# Altium schematic symbol library SG_GOST_PowerSupply.SchLib: 2 symbols
Pins are listed as number, name and electrical type; pins without a type are passive.

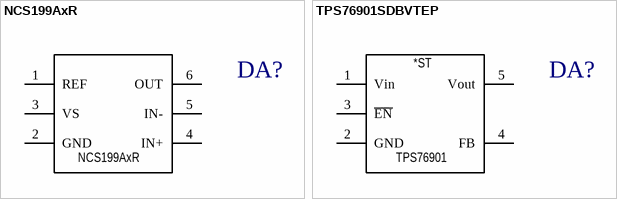
[diagram p0: symbols NCS199AxR to TPS76901SDBVTEP]

## NCS199AxR
designator DA?
Current-Shunt Monitors, / Voltage Output, / Bidirectional, Zero-Drift, / Low- or High-Side Current / Sensing; Order: Микросхема NCS199AxR, ON Semiconductor, США; SerialNumber: NCS199AxR
footprint SOT23-5
pins: 1 REF, 2 GND, 3 VS, 4 IN+, 5 IN-, 6 OUT

## TPS76901SDBVTEP
designator DA?  (value not drawn)
Микросхема TPS76901SDBVTEP; Order: Микросхема TPS76901SDBVTEP, Texas Instruments, США; SerialNumber: TPS76901SDBVTEP
footprint SOT23-5
pins: 1 Vin, 2 GND, 3 ~{EN}, 4 FB, 5 Vout
text: *ST; TPS76901